# Altium integrated library EEUFC1V222.IntLib: 1 symbol
Pins are listed as number, name and electrical type; pins without a type are passive.

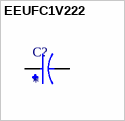
[diagram p0: symbol EEUFC1V222]

## EEUFC1V222
designator C?
2200ÂµF 35V Aluminum Electrolytic Capacitors Radial, Can 5000 Hrs @ 105Â°C; MF: Panasonic; MP: EEUFC1V222; Check_prices: https://www.snapeda.com/parts/EEUFC1V222/Panasonic/view-part/5783312/?ref=eda; SnapEDA_Link: https://www.snapeda.com/parts/EEUFC1V222/Panasonic/view-part/5783312/?ref=snap; Availability: No availability data; Package: RADIAL-2 Panasonic; Price: None; Value: *
footprint CAPPRD750W80D1600H3150
pins: N, P